# Altium footprint library PIXHAWK.PcbLib: 55 footprints (part 2 of 4)
Each footprint in its own frame and in the unit in brackets; x right, y up, seen from the top. Pads: shape width x height; smd on the part's side, far side on the other; paste and mask are expansions set on the pad; w line width, h text height; cw(c..) or ccw(c..) is an arc to the next point about the centre after c.
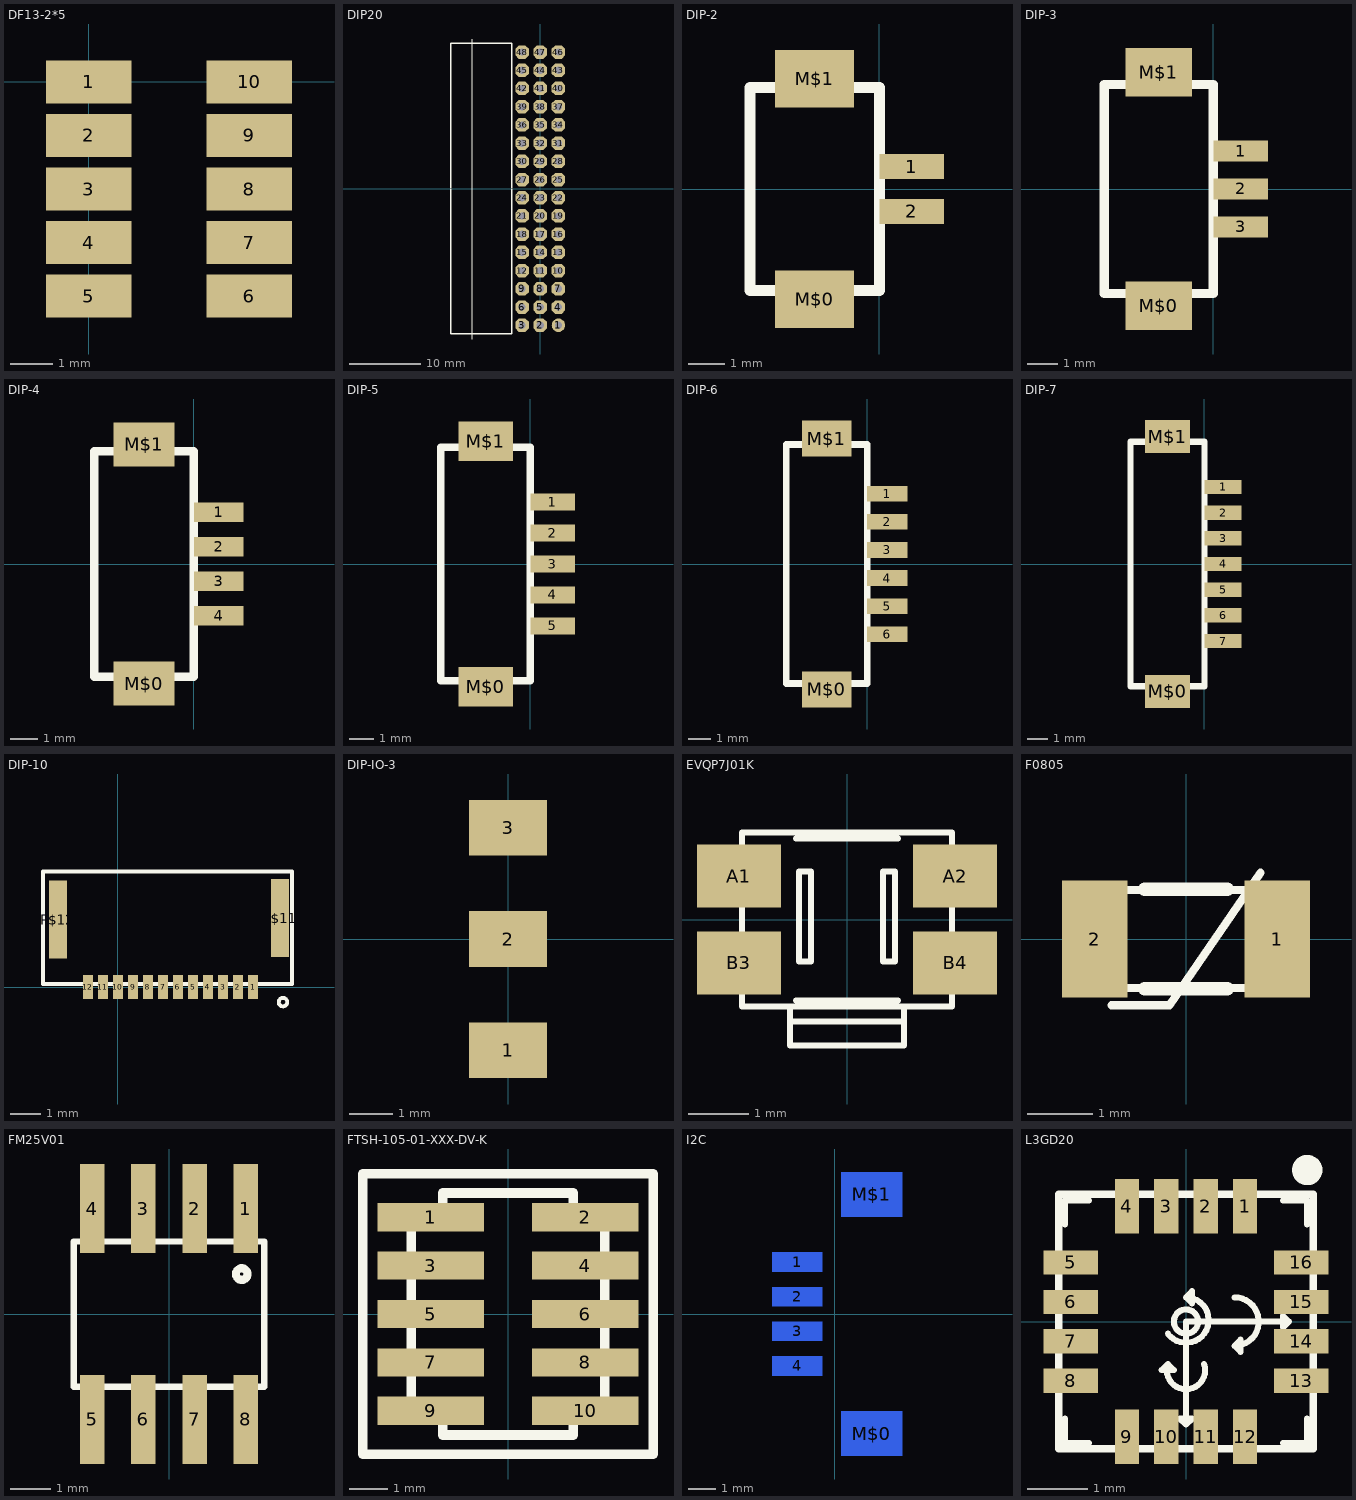
[diagram p1: the footprints below, top view; thin cyan lines are the x and y axes]

## DF13-2*5 [mm]
pads (10):
  rect 2x1 smd: 1(0,0) 2(0,-1.25) 3(0,-2.5) 4(0,-3.75) 5(0,-5) 6(3.75,-5) 7(3.75,-3.75) 8(3.75,-2.5) 9(3.75,-1.25) 10(3.75,0)

## DIP20 [mil]
pads (48):
  round 74 hole 40: 1(100,-750)
  oct 74x74 hole 40: 2(0,-750) 3(-100,-750) 4(100,-650) 5(0,-650) 6(-100,-650) 7(100,-550) 8(0,-550) 9(-100,-550) 10(100,-450) 11(0,-450) 12(-100,-450) 13(100,-350) 14(0,-350) 15(-100,-350) 16(100,-250) 17(0,-250) 18(-100,-250) 19(100,-150) 20(0,-150) 21(-100,-150) 22(100,-50) 23(0,-50) 24(-100,-50) 25(100,50) 26(0,50) 27(-100,50) 28(100,150) 29(0,150) 30(-100,150) 31(100,250) 32(0,250) 33(-100,250) 34(100,350) 35(0,350) 36(-100,350) 37(100,450) 38(0,450) 39(-100,450) 40(100,550) 41(0,550) 42(-100,550) 43(100,650) 44(0,650) 45(-100,650) 46(100,750) 47(0,750) 48(-100,750)
Top Overlay:
  lines w5: -372.83,-825.59 -372.83,21.65 ; -372.83,-25.59 -372.83,821.65
  lines w8: -490.94,-1.97 -490.94,-798.03 -156.3,-798.03 -156.3,-1.97 ; -490.94,1.97 -490.94,798.03 -156.3,798.03 -156.3,1.97

## DIP-2 [mm]
pads (4):
  rect 1.8x0.7 smd: 1(0.898,0.628) 2(0.898,-0.622)
  rect 2.2x1.6 smd: M$0(-1.802,-3.072) M$1(-1.802,3.078)
Top Overlay:
  lines w0.305: -3.602,-2.822 -0.002,-2.822 -0.002,2.828 -3.602,2.828 -3.602,-2.822

## DIP-3 [mm]
pads (5):
  rect 1.8x0.7 smd: 1(0.899,1.25) 2(0.899,0) 3(0.899,-1.25)
  rect 2.2x1.6 smd: M$0(-1.801,-3.85) M$1(-1.801,3.85)
Top Overlay:
  lines w0.305: -3.601,-3.45 -3.601,3.45 -0.001,3.45 -0.001,-3.45 -3.601,-3.45

## DIP-4 [mm]
pads (6):
  rect 1.8x0.7 smd: 1(0.9,1.875) 2(0.9,0.625) 3(0.9,-0.625) 4(0.9,-1.875)
  rect 2.2x1.6 smd: M$0(-1.8,-4.325) M$1(-1.8,4.325)
Top Overlay:
  lines w0.305: -3.599,-4.075 0.001,-4.075 0.001,4.075 -3.599,4.075 -3.599,-4.075

## DIP-5 [mm]
pads (7):
  rect 1.8x0.7 smd: 1(0.909,2.5) 2(0.909,1.25) 3(0.909,0) 4(0.909,-1.25) 5(0.909,-2.5)
  rect 2.2x1.6 smd: M$0(-1.791,-4.95) M$1(-1.791,4.95)
Top Overlay:
  lines w0.305: -3.601,-4.7 -3.601,4.7 -0.001,4.7 -0.001,-4.7 -3.601,-4.7

## DIP-6 [mm]
pads (8):
  rect 1.8x0.7 smd: 1(0.902,3.125) 2(0.902,1.875) 3(0.902,0.625) 4(0.902,-0.625) 5(0.902,-1.875) 6(0.902,-3.125)
  rect 2.2x1.6 smd: M$0(-1.798,-5.575) M$1(-1.798,5.575)
Top Overlay:
  lines w0.305: -3.598,-5.325 0.002,-5.325 0.002,5.325 -3.598,5.325 -3.598,-5.325

## DIP-7 [mm]
pads (9):
  rect 1.8x0.7 smd: 1(0.907,3.752) 2(0.907,2.503) 3(0.907,1.253) 4(0.907,0.003) 5(0.907,-1.248) 6(0.907,-2.497) 7(0.907,-3.747)
  rect 2.2x1.6 smd: M$0(-1.793,-6.197) M$1(-1.793,6.203)
Top Overlay:
  lines w0.305: -3.603,-5.948 -3.603,5.953 -0.003,5.953 -0.003,-5.948 -3.603,-5.948

## DIP-10 [mm]
pads (14):
  rect 0.34x0.8 smd: 1(4.5,0) 2(4,0) 3(3.5,0) 4(3,0) 5(2.5,0) 6(2,0) 7(1.5,0) 8(1,0) 9(0.5,0) 10(0,0) 11(-0.5,0) 12(-1,0)
  rect 0.6x2.6 smd: P$11(5.4,2.3) P$12(-2,2.25)
Top Overlay:
  circle w0.127: c5.5,-0.5 r0.141
  lines w0.127: 5.8,3.8 5.8,0.1 -2.5,0.1 -2.5,3.85 5.8,3.85

## DIP-IO-3 [mil]
pads (3):
  rect 70x50 smd: 1(0,-100) 2(0,0) 3(0,100)

## EVQP7J01K [mm]
pads (4):
  rect 1.4x1.05 smd: A1(-1.8,0.725) A2(1.8,0.725) B3(-1.8,-0.725) B4(1.8,-0.725)
Top Overlay:
  lines w0.1: -1.8,-1 -2.3,-1 -2.3,-0.6 -2.1,-0.6 -2.1,-0.5 -1.8,-0.5 ; -1.8,0.5 -2.1,0.5 -2.1,0.6 -2.3,0.6 -2.3,1 -1.8,1 ; -0.85,-1.35 0.85,-1.35 ; -0.85,1.35 0.85,1.35 ; 0.95,-1.7 -0.95,-1.7 ; 1.8,-1 2.3,-1 2.3,-0.6 2.1,-0.6 2.1,-0.5 1.8,-0.5 ; 1.8,0.5 2.1,0.5 2.1,0.6 2.3,0.6 2.3,1 1.8,1 ; -0.95,-1.7 -0.95,-1.45 ; -0.95,-1.7 -0.95,-2.1 0.95,-2.1 0.95,-1.45 ; -0.95,-1.45 0.95,-1.45 ; -0.95,-1.45 -1.75,-1.45 -1.75,1.45 1.75,1.45 1.75,-1.45 0.95,-1.45 ; -0.8,-0.7 -0.6,-0.7 -0.6,0.8 -0.8,0.8 -0.8,-0.7 ; 0.6,-0.7 0.8,-0.7 0.8,0.8 0.6,0.8 0.6,-0.7

## F0805 [mm]
pads (2):
  rect 1x1.8 smd: 1(1.4,0) 2(-1.4,0)
Top Overlay:
  lines w0.127: -1.143,-1.016 -0.254,-1.016 1.143,1.016 ; -1.5,-0.75 -1.5,0.75 1.5,0.75 1.5,-0.75 -1.5,-0.75
  lines w0.203: -0.635,-0.762 0.635,-0.762 ; -0.635,0.762 0.635,0.762

## FM25V01 [mil]
pads (8):
  rect 24x87 smd: 1(75,103) 2(25,103) 3(-25,103) 4(-75,103) 5(-75,-103) 6(-25,-103) 7(25,-103) 8(75,-103)
Top Overlay:
  circle w8: c71,39 r5.65
  lines w6: -92.99,-70.99 -92.99,70.98 92.99,70.98 92.99,-70.99 -92.99,-70.99

## FTSH-105-01-XXX-DV-K [mil]
pads (10):
  rect 110x29 smd: 1(-80,100) 2(80,100) 3(-80,50) 4(80,50) 5(-80,0) 6(80,0) 7(-80,-50) 8(80,-50) 9(-80,-100) 10(80,-100)
Top Overlay:
  lines w10: -150,-145 150,-145 150,145 -150,145 -150,-145 ; -100,-100 -67.48,-100 -67.48,-125 67.52,-125 67.52,-100 100,-100 100,100 67.48,100 67.48,125 -67.48,125 -67.48,100 -100,100 -100,-100

## I2C [mm]
pads (6):
  rect 1.8x0.7 smd far side: 1(-1.35,1.875) 2(-1.35,0.625) 3(-1.35,-0.625) 4(-1.35,-1.875)
  rect 2.2x1.6 smd far side: M$0(1.35,-4.325) M$1(1.35,4.325)
Bottom Overlay:
  lines w0.305: -0.45,-4.075 -0.45,4.075 3.15,4.075 3.15,-4.075 -0.45,-4.075

## L3GD20 [mm]
pads (16):
  rect 0.4x0.9 smd: 1(0.975,1.9) 2(0.325,1.9) 3(-0.325,1.9) 4(-0.975,1.9) 9(-0.975,-1.9) 10(-0.325,-1.9) 11(0.325,-1.9) 12(0.975,-1.9)
  rect 0.9x0.4 smd: 5(-1.9,0.975) 6(-1.9,0.325) 7(-1.9,-0.325) 8(-1.9,-0.975) 13(1.9,-0.975) 14(1.9,-0.325) 15(1.9,0.325) 16(1.9,0.975)
Top Overlay:
  circle w0.3: c2,2.5 r0.1
  circle w0.1: c0,0 r0.2
  lines w0.1: -2,-1.6 -2,-2 -1.6,-2 ; -1.6,2 -2,2 ; -0.3,-0.2 ccw(c0,0.025) 0,0.4 ; 0.3,-0.7 cw(c0,-0.8) -0.3,-0.7 ; 0.8,0.4 cw(c0.8,0) 0.8,-0.4 ; 1.6,-2 2,-2 2,-1.6 ; 1.6,2 2,2 2,1.6 ; -2,2 -2,1.6 -2,2 ; -0.3,-0.7 -0.2,-0.8 -0.4,-0.8 -0.3,-0.7 ; 0,-1.7 0,0 1.7,0 ; 0,-1.7 0.1,-1.6 -0.1,-1.6 0,-1.7 ; 0,0.4 0.1,0.5 0.1,0.3 0,0.4 ; 0.8,-0.4 0.9,-0.3 0.9,-0.5 0.8,-0.4 ; 1.7,0 1.6,-0.1 1.6,0.1 1.7,0
  lines w0.127: -2.1,-2.1 2.1,-2.1 2.1,2.1 -2.1,2.1 -2.1,-2.1